# Altium footprint library XT60UPB-M.PcbLib: 1 footprints
Each footprint in its own frame and in the unit in brackets; x right, y up, seen from the top. Pads: shape width x height; smd on the part's side, far side on the other; paste and mask are expansions set on the pad; w line width, h text height; cw(c..) or ccw(c..) is an arc to the next point about the centre after c.
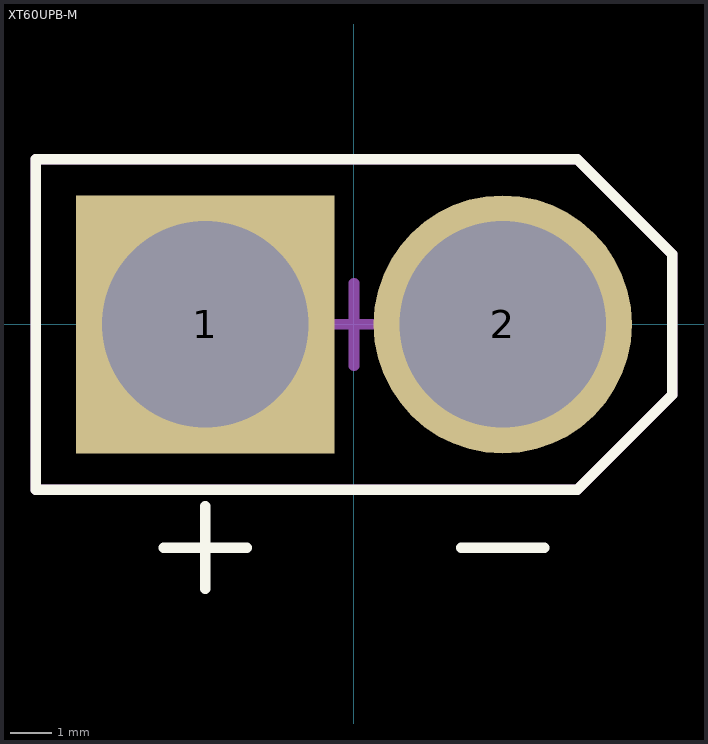
[diagram p0: the footprint, top view; thin cyan lines are the x and y axes]

## XT60UPB-M [mm]
pads (2):
  rect 6.25x6.25 hole 5 paste-2539.97 mask+0: 1(-3.6,0)
  round 6.25 hole 5 paste-2539.97 mask+0: 2(3.6,0)
Top Overlay:
  lines w0.254: -4.6,-5.4 -2.6,-5.4 ; -3.6,-6.4 -3.6,-4.4 ; 2.6,-5.4 3.1,-5.4 4.1,-5.4 ; 2.95,-5.4 4.6,-5.4 ; 7.7,-1.7 7.7,-1.7 ; 7.7,-1.7 7.7,1.7 5.4,4 -7.7,4 -7.7,-4 5.4,-4 7.7,-1.7
Top Designator:
  text ".Designator" at -7.618,-1.708 h1.52
3D Body:
  lines w0.254: 7.7,-1.7 7.7,1.7 5.4,4 -7.7,4 -7.7,-4 5.4,-4 7.7,-1.7 ; 7.7,-1.7 7.7,-1.7
Center Cross:
  lines w0.254: -1,0 0,0 ; 0,-1 0,0 ; 0,1 0,0 ; 1,0 0,0
3D body "User Library-XT60UPB Fem Vert.STEP": height 13.51, standoff -2.09, extent -7.65,-3.95 7.692,3.95